# EAGLE library part RR1A?? (library #PaJa_31)
RELE - 1x spinaci, 5V, 12V, 24V max. spinany proud = 0,5A
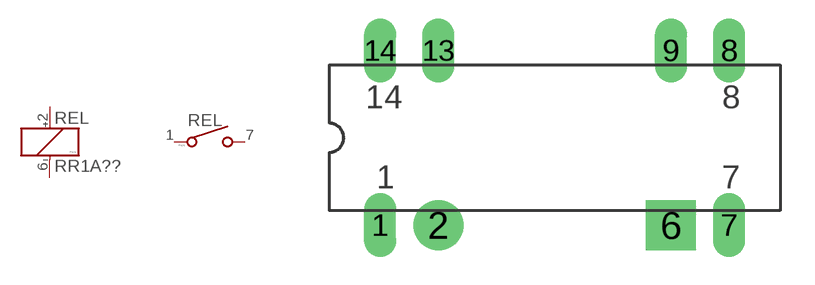
[diagram p41: symbol with the pads of REL_RR1A; footprint REL_RR1A]

Designator prefix REL; gates SPINAC=RELE_SPI2 CIVKA=RELE_+-

## RR1A  [REL_RR1A]
1  SPINAC:1  pas
2  CIVKA:C+  pas
6  CIVKA:C-  pas
7  SPINAC:2  pas
8  SPINAC:12  pas
14  SPINAC:11  pas

## Footprint REL_RR1A (pad centres in mm)
drill 0.813 pad 1.4 long: 1 -7.62,-3.81; 7 7.62,-3.81; 8 7.62,3.81; 9 5.08,3.81; 13 -5.08,3.81; 14 -7.62,3.81
drill 0.813 pad 2.184 round: 2 -5.08,-3.81
drill 0.813 pad 2.184 square: 6 5.08,-3.81